# Altium integrated library NCP45560.IntLib: 1 symbol
Pins are listed as number, name and electrical type; pins without a type are passive.

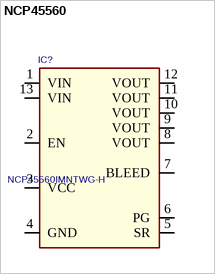
[diagram p0: symbol NCP45560]

## NCP45560
designator IC?, comment NCP45560IMNTWG-H
BUY_LINK: http://www.digikey.com/product-detail/en/NCP45560IMNTWG-H/NCP45560IMNTWG-HOSCT-ND/4499756; PDF: http://www.onsemi.com/pub_link/Collateral/NCP45560-D.PDF; ID: NCP45560IMNTWG-H; PRICE: 1.52000
footprint DFN12
pins: 1 VIN, 2 EN, 3 VCC, 4 GND, 5 SR, 6 PG, 7 BLEED, 8 VOUT, 9 VOUT, 10 VOUT, 11 VOUT, 12 VOUT, 13 VIN